# EAGLE library part LT5534 (library LT5534SC70-6)
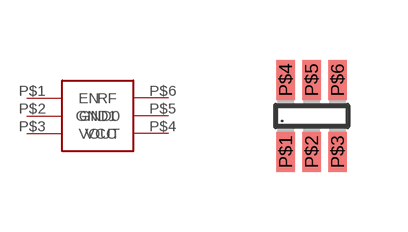
[diagram p0: symbol with the pads of SC70-6; footprint SC70-6]

Designator prefix IC

## LT5534SC70-6  [SC70-6]
P$1  EN
P$2  GND0
P$3  VOUT
P$4  VCC
P$5  GND1
P$6  RF

## Footprint SC70-6 (pad centres in mm)
smd 0.47 x 1: P$1 -0.65,-0.9; P$2 0,-0.9; P$3 0.65,-0.9; P$4 -0.65,0.9; P$5 0,0.9; P$6 0.65,0.9